# EAGLE library part ADM4073 (library anton)
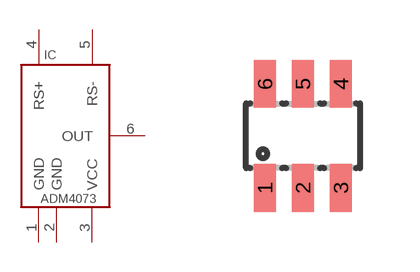
[diagram p7: symbol with the pads of SOT23-6L; footprint SOT23-6L]

Designator prefix IC

## ADM4073  [SOT23-6L]
1  GND
2  GND
3  VCC
4  RS+
5  RS-
6  OUT

## Footprint SOT23-6L (pad centres in mm)
Small Outline Transistor
smd 0.55 x 1.2: 1 -0.95,-1.3; 2 0,-1.3; 3 0.95,-1.3; 4 0.95,1.3; 5 0,1.3; 6 -0.95,1.3